# Altium schematic symbol library CPC1006N.SchLib: 1 symbol
Pins are listed as number, name and electrical type; pins without a type are passive.

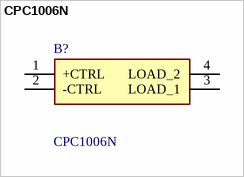
[diagram p0: symbol CPC1006N]

## CPC1006N
designator B?
SPST-NO Solid State Relay Solder 75 mA rms/mA dc Surface Mount, DC MOSFET; Manufacturer_Name: LITTELFUSE; Geometry.Height: 2.159mm; Mouser Part Number: 849-CPC1006N; Mouser Price/Stock: https://www.mouser.co.uk/ProductDetail/IXYS-Integrated-Circuits/CPC1006N?qs=8uBHJDVwVqwpldvM8lkCRw%3D%3D; Manufacturer_Part_Number: CPC1006N; Datasheet Link: https://componentsearchengine.com/Datasheets/1/CPC1006N.pdf
footprint SOP254P610X216-4N
pins: 1 +CTRL, 2 -CTRL, 3 LOAD_1, 4 LOAD_2